# Altium integrated library WE-CBF HF SMD EMI Suppression Ferrite Bead (High Frequency).IntLib: 10 symbols
Pins are listed as number, name and electrical type; pins without a type are passive.

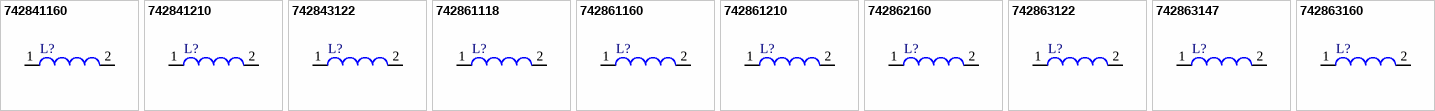
[diagram p0: symbols 742841160 to 742863160]

## 742841160
designator L?
SMD EMI Suppression Ferrite Bead WE-CBF HF, Z = 600 Ohm; PartNumber: 742841160; Impedance: 600 Ohm; DatasheetVersion: ver 2, Aug-2009; PackageReference: SMD-0402; PackageDescription: Chip Inductor, 2-Leads, Body 1.0 x 0.5 mm; ComponentLink1Description: Manufacturer URL; ComponentLink1URL: http://www.we-online.com; ComponentLink2Description: Datasheet; ComponentLink2URL: http://www.we-online.de/katalog/media/pdf/742841160.pdf
footprint SMD-0402 (Chip Inductor, 2-Leads, Body 1.0x0.5x0.6 mm)
pins: 1, 2

## 742841210
designator L?
SMD EMI Suppression Ferrite Bead WE-CBF HF, Z = 1000 Ohm; PartNumber: 742841210; DatasheetVersion: ver 2, Aug-2009; PackageReference: SMD-0402; PackageDescription: Chip Inductor, 2-Leads, Body 1.0 x 0.5 mm; Impedance: 1000 Ohm; ComponentLink1Description: Manufacturer URL; ComponentLink1URL: http://www.we-online.com; ComponentLink2Description: Datasheet; ComponentLink2URL: http://www.we-online.de/katalog/media/pdf/742841210.pdf
footprint SMD-0402 (Chip Inductor, 2-Leads, Body 1.0x0.5x0.6 mm)
pins: 1, 2

## 742843122
designator L?
SMD EMI Suppression Ferrite Bead WE-CBF HF, Z = 220 Ohm; PartNumber: 742843122; Impedance: 220 Ohm; DatasheetVersion: ver 2, Aug-2009; PackageReference: SMD-0402; PackageDescription: Chip Inductor, 2-Leads, Body 1.0 x 0.5 mm; ComponentLink1Description: Manufacturer URL; ComponentLink1URL: http://www.we-online.com; ComponentLink2Description: Datasheet; ComponentLink2URL: http://www.we-online.de/katalog/media/pdf/742843122.pdf
footprint SMD-0402 (Chip Inductor, 2-Leads, Body 1.0x0.5x0.6 mm)
pins: 1, 2

## 742861118
designator L?
SMD EMI Suppression Ferrite Bead WE-CBF HF, Z = 180 Ohm; PartNumber: 742861118; Impedance: 180 Ohm; DatasheetVersion: ver 2, Aug-2009; PackageReference: SMD-0603; PackageDescription: Chip Inductor, 2-Leads, Body 1.6 x 0.8 mm; ComponentLink1Description: Manufacturer URL; ComponentLink1URL: http://www.we-online.com; ComponentLink2Description: Datasheet; ComponentLink2URL: http://www.we-online.de/katalog/media/pdf/742861118.pdf
footprint SMD-0603 (Chip Inductor, 2-Leads, Body 1.6x0.8x0.95 mm)
pins: 1, 2

## 742861160
designator L?
SMD EMI Suppression Ferrite Bead WE-CBF HF, Z = 600 Ohm; PartNumber: 742861160; Impedance: 600 Ohm; DatasheetVersion: ver 3, Oct-2009; PackageReference: SMD-0603; PackageDescription: Chip Inductor, 2-Leads, Body 1.6 x 0.8 mm; ComponentLink1Description: Manufacturer URL; ComponentLink1URL: http://www.we-online.com; ComponentLink2Description: Datasheet; ComponentLink2URL: http://www.we-online.de/katalog/media/pdf/742861160.pdf
footprint SMD-0603 (Chip Inductor, 2-Leads, Body 1.6x0.8x0.95 mm)
pins: 1, 2

## 742861210
designator L?
SMD EMI Suppression Ferrite Bead WE-CBF HF, Z = 1000 Ohm; PartNumber: 742861210; DatasheetVersion: ver 2, Aug-2009; PackageReference: SMD-0603; PackageDescription: Chip Inductor, 2-Leads, Body 1.6 x 0.8 mm; Impedance: 1000 Ohm; ComponentLink1Description: Manufacturer URL; ComponentLink1URL: http://www.we-online.com; ComponentLink2Description: Datasheet; ComponentLink2URL: http://www.we-online.de/katalog/media/pdf/742861210.pdf
footprint SMD-0603 (Chip Inductor, 2-Leads, Body 1.6x0.8x0.95 mm)
pins: 1, 2

## 742862160
designator L?
SMD EMI Suppression Ferrite Bead WE-CBF HF, Z = 600 Ohm; PartNumber: 742862160; Impedance: 600 Ohm; DatasheetVersion: ver 2, Aug-2009; PackageReference: SMD-0603; PackageDescription: Chip Inductor, 2-Leads, Body 1.6 x 0.8 mm; ComponentLink1Description: Manufacturer URL; ComponentLink1URL: http://www.we-online.com; ComponentLink2Description: Datasheet; ComponentLink2URL: http://www.we-online.de/katalog/media/pdf/742862160.pdf
footprint SMD-0603 (Chip Inductor, 2-Leads, Body 1.6x0.8x0.95 mm)
pins: 1, 2

## 742863122
designator L?
SMD EMI Suppression Ferrite Bead WE-CBF HF, Z = 220 Ohm; PartNumber: 742863122; Impedance: 220 Ohm; DatasheetVersion: ver 2, Aug-2009; PackageReference: SMD-0603; PackageDescription: Chip Inductor, 2-Leads, Body 1.6 x 0.8 mm; ComponentLink1Description: Manufacturer URL; ComponentLink1URL: http://www.we-online.com; ComponentLink2Description: Datasheet; ComponentLink2URL: http://www.we-online.de/katalog/media/pdf/742863122.pdf
footprint SMD-0603 (Chip Inductor, 2-Leads, Body 1.6x0.8x0.95 mm)
pins: 1, 2

## 742863147
designator L?
SMD EMI Suppression Ferrite Bead WE-CBF HF, Z = 470 Ohm; PartNumber: 742863147; Impedance: 470 Ohm; DatasheetVersion: ver 2, Aug-2009; PackageReference: SMD-0603; PackageDescription: Chip Inductor, 2-Leads, Body 1.6 x 0.8 mm; ComponentLink1Description: Manufacturer URL; ComponentLink1URL: http://www.we-online.com; ComponentLink2Description: Datasheet; ComponentLink2URL: http://www.we-online.de/katalog/media/pdf/742863147.pdf
footprint SMD-0603 (Chip Inductor, 2-Leads, Body 1.6x0.8x0.95 mm)
pins: 1, 2

## 742863160
designator L?
SMD EMI Suppression Ferrite Bead WE-CBF HF, Z = 600 Ohm; PartNumber: 742863160; Impedance: 600 Ohm; DatasheetVersion: ver 2, Aug-2009; PackageReference: SMD-0603; PackageDescription: Chip Inductor, 2-Leads, Body 1.6 x 0.8 mm; ComponentLink1Description: Manufacturer URL; ComponentLink1URL: http://www.we-online.com; ComponentLink2Description: Datasheet; ComponentLink2URL: http://www.we-online.de/katalog/media/pdf/742863160.pdf
footprint SMD-0603 (Chip Inductor, 2-Leads, Body 1.6x0.8x0.95 mm)
pins: 1, 2